# EAGLE library part WE-FB_EP7_SCH1 (library Wurth_Power Magnetics_WE-FB)
WE-FB Flyback Transformer suitable for LT3573/ LT3574/ LT3575/ LT3748 Characteristics easy design in solution less external components needed small board space low cost no optocoupler needed! long term reliability voltage control no aging same external parts for different output voltages easy design of custom power supply due to standard circuit and change of transformers and two components for feedback loop Isolation voltage up to 2.5 kV Applications Isolated power design Sensor interfaces Isolated telecom converters Power over Ethernet The Variant for the device "_p8.13 mean the pitch OF PAD is 8.13mm,P11.66 mean Pitch OF PAD is 11.66 mm,P11.68 mean Pitch is 11.68 mm" The "VALUE"shown for symbol and packaging is Ooutput Voltage 1 Output Current 1 <https://katalog.we-online.com/media/images/v2/o35283v209%20Family_we-fb_LT%20Kits_gruppe.jpg> Details see: https://katalog.we-online.com/en/pbs/WE-FB Updated by Yingchun,Shan 2019-08-27 2019 Wurth Elektronik
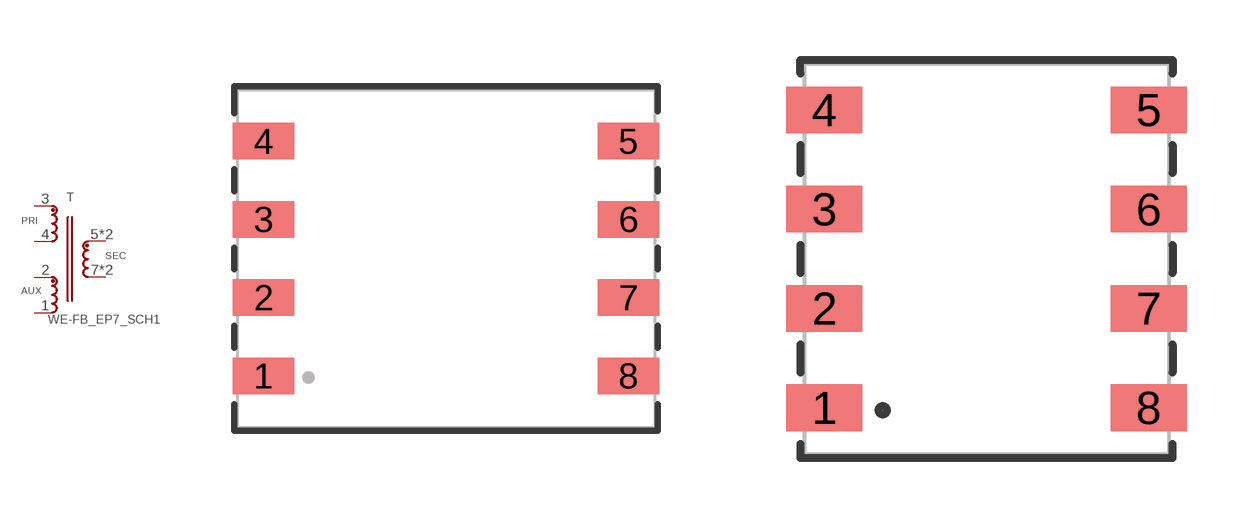
[diagram p14: symbol with the pads of WE-FB_EP7_P11.66; footprints WE-FB_EP7_P11.66, WE-FB_EP7_P8.13]

Designator prefix T

## WE-FB_EP7_SCH1_750370047_P11.66 (DATASHEET-URL: https://katalog.we-online.com/pbs/datasheet/750370047.pdf; ISAT: 1.7A; L: 30uH; LSMIN: 1uH; N: 3:1; PART-NUMBER: 750370047; VALUE: 5V 1A; VI: 18-30V(DC); VT: 1500V(AC))  [WE-FB_EP7_P11.66]
1  4  pas
2  3  pas
3  1  pas
4  2  pas
5  6  pas
6  6  pas
7  5  pas
8  5  pas

## WE-FB_EP7_SCH1_750310799_P8.13 (DATASHEET-URL: https://katalog.we-online.com/pbs/datasheet/750310799.pdf; ISAT: 2A; L: 25uH; LSMIN: 0.15uH; N: 1:1; PART-NUMBER: 750310799; VALUE: 15V 0.4A; VI: 18-30V(DC); VT: 1500V(AC)), WE-FB_EP7_SCH1_750370040_P8.13 (DATASHEET-URL: https://katalog.we-online.com/pbs/datasheet/750370040.pdf; ISAT: 1.7A; L: 30uH; LSMIN: 1uH; N: 3:1; PART-NUMBER: 750370040; VALUE: 5V 1A; VI: 18-30V(DC); VT: 1500V(AC)), WE-FB_EP7_SCH1_750370041_P8.13 (DATASHEET-URL: https://katalog.we-online.com/pbs/datasheet/750370041.pdf; ISAT: 1.6A; L: 50uH; LSMIN: 0.45uH; N: 3:1; PART-NUMBER: 750370041; VALUE: 5V 1A; VI: 18-30V(DC); VT: 1500V(AC))  [WE-FB_EP7_P8.13]
Pads as for WE-FB_EP7_P11.66

## WE-FB_EP7_SCH1_750370058_P11.68 (DATASHEET-URL: https://katalog.we-online.com/pbs/datasheet/750370058.pdf; ISAT: 2A; L: 25uH; LSMIN: 0.185uH; N: 1:1; PART-NUMBER: 750370058; VALUE: 15V 0.4A; VI: 18-30V(DC); VT: 1500V(AC)), WE-FB_EP7_SCH1_750370059_P11.68 (DATASHEET-URL: https://katalog.we-online.com/pbs/datasheet/750370059.pdf; ISAT: 1.6A; L: 50uH; LSMIN: 0.5uH; N: 3:1; PART-NUMBER: 750370059; VALUE: 5V 1A; VI: 18-30V(DC); VT: 1500V(AC))  [WE-FB_EP7_P11.68]
Pads as for WE-FB_EP7_P11.66

## Footprint WE-FB_EP7_P11.66 (pad centres in mm)
WE-FB Flyback Transformer suitable for LT3573/ LT3574/ LT3575/ LT3748 Size: EP7 SMD 8Pin Pitch of PAD=11.66mm
smd 1.96 x 1.17: 1 -5.83,-3.75; 2 -5.83,-1.25; 3 -5.83,1.25; 4 -5.83,3.75; 5 5.83,3.75; 6 5.83,1.25; 7 5.83,-1.25; 8 5.83,-3.75

## Footprint WE-FB_EP7_P8.13 (pad centres in mm)
WE-FB Flyback Transformer suitable for LT3573/ LT3574/ LT3575/ LT3748 Size: EP7 SMD 8Pin Pitch of PAD=8.13mm
smd 1.91 x 1.17: 1 -4.065,-3.735; 2 -4.065,-1.245; 3 -4.065,1.245; 4 -4.065,3.735; 5 4.065,3.735; 6 4.065,1.245; 7 4.065,-1.245; 8 4.065,-3.735

## Footprint WE-FB_EP7_P11.68 (pad centres in mm)
WE-FB Flyback Transformer suitable for LT3573/ LT3574/ LT3575/ LT3748 Size: EP7 SMD 8Pin Pitch of PAD=11.68mm
smd 1.96 x 1.17: 1 -5.84,-3.735; 2 -5.84,-1.245; 3 -5.84,1.245; 4 -5.84,3.735; 5 5.84,3.735; 6 5.84,1.245; 7 5.84,-1.245; 8 5.84,-3.735